# Altium footprint library V_4.PcbLib: 4 footprints
Each footprint in its own frame and in the unit in brackets; x right, y up, seen from the top. Pads: shape width x height; smd on the part's side, far side on the other; paste and mask are expansions set on the pad; w line width, h text height; cw(c..) or ccw(c..) is an arc to the next point about the centre after c.
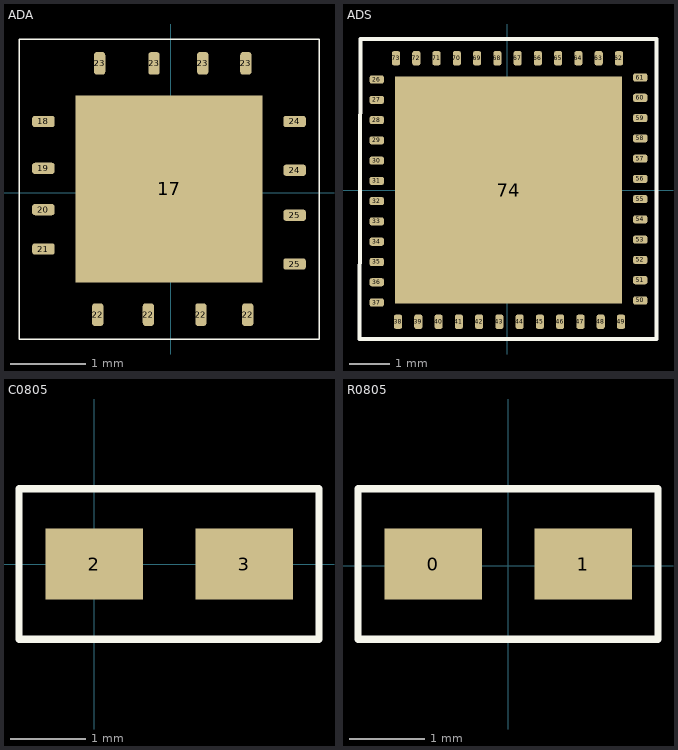
[diagram p0: the footprints below, top view; thin cyan lines are the x and y axes]

## ADA [mm]
pads (17):
  rect 2.5x2.5 smd: 17(-0.025,0.05)
  rrect50% 0.3x0.15 smd: 18(-1.7,0.95) 19(-1.7,0.325) 20(-1.7,-0.225) 21(-1.7,-0.75) 24(1.65,0.3) 24(1.65,0.95) 25(1.65,-0.95) 25(1.65,-0.3)
  rrect50% 0.15x0.3 smd: 22(-0.975,-1.625) 22(-0.3,-1.625) 22(0.4,-1.625) 22(1.025,-1.625) 23(-0.95,1.725) 23(-0.225,1.725) 23(0.425,1.725) 23(1,1.725)
Top Overlay:
  lines w0.02: -2.025,-1.95 -2.025,2.05 1.975,2.05 1.975,0.05 1.975,-1.95 -2.025,-1.95

## ADS [mm]
pads (49):
  rrect50% 0.35x0.2 smd: 26(-3.225,2.725) 27(-3.225,2.225) 28(-3.225,1.725) 29(-3.225,1.225) 30(-3.225,0.725) 31(-3.225,0.225) 32(-3.225,-0.275) 33(-3.225,-0.775) 34(-3.225,-1.275) 35(-3.225,-1.775) 36(-3.225,-2.275) 37(-3.225,-2.775) 50(3.275,-2.725) 51(3.275,-2.225) 52(3.275,-1.725) 53(3.275,-1.225) 54(3.275,-0.725) 55(3.275,-0.225) 56(3.275,0.275) 57(3.275,0.775) 58(3.275,1.275) 59(3.275,1.775) 60(3.275,2.275) 61(3.275,2.775)
  rrect50% 0.2x0.35 smd: 38(-2.7,-3.25) 39(-2.2,-3.25) 40(-1.7,-3.25) 41(-1.2,-3.25) 42(-0.7,-3.25) 43(-0.2,-3.25) 44(0.3,-3.25) 45(0.8,-3.25) 46(1.3,-3.25) 47(1.8,-3.25) 48(2.3,-3.25) 49(2.8,-3.25) 62(2.75,3.25) 63(2.25,3.25) 64(1.75,3.25) 65(1.25,3.25) 66(0.75,3.25) 67(0.25,3.25) 68(-0.25,3.25) 69(-0.75,3.25) 70(-1.25,3.25) 71(-1.75,3.25) 72(-2.25,3.25) 73(-2.75,3.25)
  rect 5.6x5.6 smd: 74(0.025,0)
Top Overlay:
  lines w0.1: -3.65,-3.675 3.675,-3.675 3.675,3.725 -3.625,3.725 -3.65,-3.675

## C0805 [mm]
pads (2):
  rect 1.3x0.95 smd: 2(0,0) 3(2,0)
Top Overlay:
  lines w0.1: -1,-1 3,-1 3,1 -1,1 -1,-1

## R0805 [mm]
pads (2):
  rect 1.3x0.95 smd: 0(-1,0.025) 1(1,0.025)
Top Overlay:
  lines w0.1: -2,-0.975 -2,1.025 2,1.025 2,-0.975 -2,-0.975